# Altium schematic symbol library Diode.SchLib: 578 symbols (part 1 of 4)
Pins are listed as number, name and electrical type; pins without a type are passive.

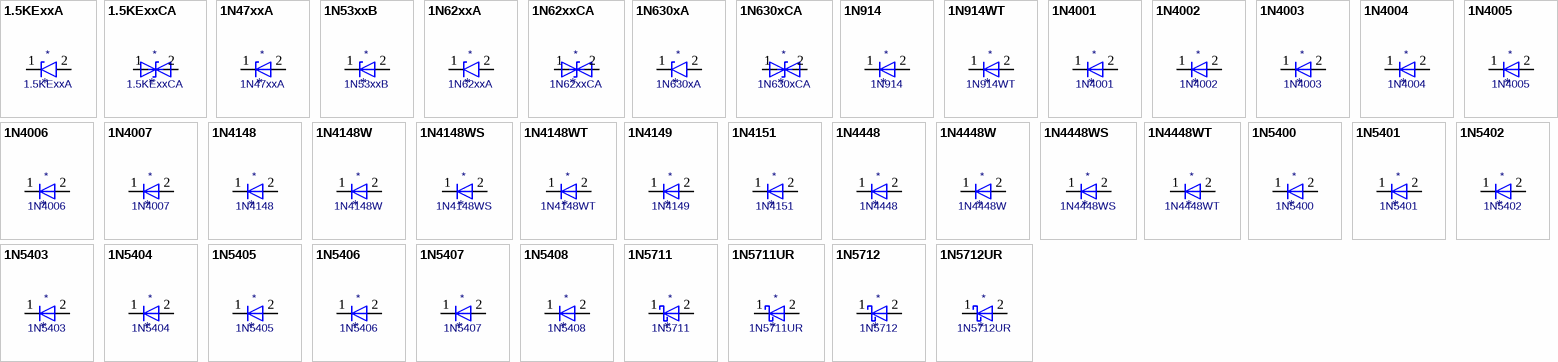
[diagram p0: symbols 1.5KExxA to 1N5712UR]

## 1.5KExxA
designator *  value 1.5KExxA
ki_keywords: diode TVS voltage suppressor; ki_description: 1500W unidirectional TRANSZORB® Transient Voltage Suppressor, DO-201AE; ki_fp_filters: D?DO?201AE*; Footprint: Diode_THT:D_DO-201AE_P15.24mm_Horizontal; Supplier: https://www.vishay.com/docs/88301/15ke.pdf
footprint D_DO-201AE_P15.24mm_Horizontal
pins: 1 A1, 2 A2

## 1.5KExxCA
designator *  value 1.5KExxCA
ki_keywords: diode TVS voltage suppressor; ki_description: 1500W bidirectional TRANSZORB® Transient Voltage Suppressor, DO-201AE; ki_fp_filters: D?DO?201AE*; Footprint: Diode_THT:D_DO-201AE_P15.24mm_Horizontal; Supplier: https://www.vishay.com/docs/88301/15ke.pdf
footprint D_DO-201AE_P15.24mm_Horizontal
pins: 1 A1, 2 A2

## 1N47xxA
designator *  value 1N47xxA
ki_keywords: zener diode; ki_description: 1300mW Silicon planar power Zener diodes, DO-41; ki_fp_filters: D*DO?41*; Footprint: Diode_THT:D_DO-41_SOD81_P10.16mm_Horizontal; Supplier: https://www.vishay.com/docs/85816/1n4728a.pdf
footprint D_DO-41_SOD81_P10.16mm_Horizontal
pins: 1 K, 2 A

## 1N53xxB
designator *  value 1N53xxB
ki_keywords: zener diode; ki_description: 5000mW Zener Diode, DO-201; ki_fp_filters: D*DO?201*; Footprint: Diode_THT:D_DO-201_P15.24mm_Horizontal; Supplier: https://diotec.com/tl_files/diotec/files/pdf/datasheets/1n5345b.pdf
footprint D_DO-201_P15.24mm_Horizontal
pins: 1 K, 2 A

## 1N62xxA
designator *  value 1N62xxA
ki_keywords: diode TVS voltage suppressor; ki_description: 1500W unidirectional TRANSZORB® Transient Voltage Suppressor, DO-201AE; ki_fp_filters: D?DO?201AE*; Footprint: Diode_THT:D_DO-201AE_P15.24mm_Horizontal; Supplier: https://www.vishay.com/docs/88301/15ke.pdf
footprint D_DO-201AE_P15.24mm_Horizontal
pins: 1 A1, 2 A2

## 1N62xxCA
designator *  value 1N62xxCA
ki_keywords: diode TVS voltage suppressor; ki_description: 1500W bidirectional TRANSZORB® Transient Voltage Suppressor, DO-201AE; ki_fp_filters: D?DO?201AE*; Footprint: Diode_THT:D_DO-201AE_P15.24mm_Horizontal; Supplier: https://www.vishay.com/docs/88301/15ke.pdf
footprint D_DO-201AE_P15.24mm_Horizontal
pins: 1 A1, 2 A2

## 1N630xA
designator *  value 1N630xA
ki_keywords: diode TVS voltage suppressor; ki_description: 1500W unidirectional TRANSZORB® Transient Voltage Suppressor, DO-201AE; ki_fp_filters: D?DO?201AE*; Footprint: Diode_THT:D_DO-201AE_P15.24mm_Horizontal; Supplier: https://www.vishay.com/docs/88301/15ke.pdf
footprint D_DO-201AE_P15.24mm_Horizontal
pins: 1 A1, 2 A2

## 1N630xCA
designator *  value 1N630xCA
ki_keywords: diode TVS voltage suppressor; ki_description: 1500W bidirectional TRANSZORB® Transient Voltage Suppressor, DO-201AE; ki_fp_filters: D?DO?201AE*; Footprint: Diode_THT:D_DO-201AE_P15.24mm_Horizontal; Supplier: https://www.vishay.com/docs/88301/15ke.pdf
footprint D_DO-201AE_P15.24mm_Horizontal
pins: 1 A1, 2 A2

## 1N914
designator *  value 1N914
ki_keywords: diode; ki_description: 100V 0.3A Small Signal Fast Switching Diode, DO-35; ki_fp_filters: D*DO?35*; Footprint: Diode_THT:D_DO-35_SOD27_P7.62mm_Horizontal; Supplier: http://www.vishay.com/docs/85622/1n914.pdf
footprint D_DO-35_SOD27_P7.62mm_Horizontal
pins: 1 K, 2 A

## 1N914WT
designator *  value 1N914WT
ki_keywords: diode; ki_description: 75V 0.15A Fast switching Diode, SOD-523; ki_fp_filters: D*SOD?523*; Footprint: Diode_SMD:D_SOD-523; Supplier: http://www.mouser.com/ds/2/149/1N4148WT-461550.pdf
footprint D_SOD-523
pins: 1 K, 2 A

## 1N4001
designator *  value 1N4001
ki_keywords: diode; ki_description: 50V 1A General Purpose Rectifier Diode, DO-41; ki_fp_filters: D*DO?41*; Footprint: Diode_THT:D_DO-41_SOD81_P10.16mm_Horizontal; Supplier: http://www.vishay.com/docs/88503/1n4001.pdf
footprint D_DO-41_SOD81_P10.16mm_Horizontal
pins: 1 K, 2 A

## 1N4002
designator *  value 1N4002
ki_keywords: diode; ki_description: 100V 1A General Purpose Rectifier Diode, DO-41; ki_fp_filters: D*DO?41*; Footprint: Diode_THT:D_DO-41_SOD81_P10.16mm_Horizontal; Supplier: http://www.vishay.com/docs/88503/1n4001.pdf
footprint D_DO-41_SOD81_P10.16mm_Horizontal
pins: 1 K, 2 A

## 1N4003
designator *  value 1N4003
ki_keywords: diode; ki_description: 200V 1A General Purpose Rectifier Diode, DO-41; ki_fp_filters: D*DO?41*; Footprint: Diode_THT:D_DO-41_SOD81_P10.16mm_Horizontal; Supplier: http://www.vishay.com/docs/88503/1n4001.pdf
footprint D_DO-41_SOD81_P10.16mm_Horizontal
pins: 1 K, 2 A

## 1N4004
designator *  value 1N4004
ki_keywords: diode; ki_description: 400V 1A General Purpose Rectifier Diode, DO-41; ki_fp_filters: D*DO?41*; Footprint: Diode_THT:D_DO-41_SOD81_P10.16mm_Horizontal; Supplier: http://www.vishay.com/docs/88503/1n4001.pdf
footprint D_DO-41_SOD81_P10.16mm_Horizontal
pins: 1 K, 2 A

## 1N4005
designator *  value 1N4005
ki_keywords: diode; ki_description: 600V 1A General Purpose Rectifier Diode, DO-41; ki_fp_filters: D*DO?41*; Footprint: Diode_THT:D_DO-41_SOD81_P10.16mm_Horizontal; Supplier: http://www.vishay.com/docs/88503/1n4001.pdf
footprint D_DO-41_SOD81_P10.16mm_Horizontal
pins: 1 K, 2 A

## 1N4006
designator *  value 1N4006
ki_keywords: diode; ki_description: 800V 1A General Purpose Rectifier Diode, DO-41; ki_fp_filters: D*DO?41*; Footprint: Diode_THT:D_DO-41_SOD81_P10.16mm_Horizontal; Supplier: http://www.vishay.com/docs/88503/1n4001.pdf
footprint D_DO-41_SOD81_P10.16mm_Horizontal
pins: 1 K, 2 A

## 1N4007
designator *  value 1N4007
ki_keywords: diode; ki_description: 1000V 1A General Purpose Rectifier Diode, DO-41; ki_fp_filters: D*DO?41*; Footprint: Diode_THT:D_DO-41_SOD81_P10.16mm_Horizontal; Supplier: http://www.vishay.com/docs/88503/1n4001.pdf
footprint D_DO-41_SOD81_P10.16mm_Horizontal
pins: 1 K, 2 A

## 1N4148
designator *  value 1N4148
ki_keywords: diode; ki_description: 100V 0.15A standard switching diode, DO-35; ki_fp_filters: D*DO?35*; Footprint: Diode_THT:D_DO-35_SOD27_P7.62mm_Horizontal; Supplier: https://assets.nexperia.com/documents/data-sheet/1N4148_1N4448.pdf
footprint D_DO-35_SOD27_P7.62mm_Horizontal
pins: 1 K, 2 A

## 1N4148W
designator *  value 1N4148W
ki_keywords: diode; ki_description: 75V 0.15A Fast Switching Diode, SOD-123; ki_fp_filters: D*SOD?123*; Footprint: Diode_SMD:D_SOD-123; Supplier: https://www.vishay.com/docs/85748/1n4148w.pdf
footprint D_SOD-123
pins: 1 K, 2 A

## 1N4148WS
designator *  value 1N4148WS
ki_keywords: diode; ki_description: 75V 0.15A Fast switching Diode, SOD-323; ki_fp_filters: D*SOD?323*; Footprint: Diode_SMD:D_SOD-323; Supplier: https://www.vishay.com/docs/85751/1n4148ws.pdf
footprint D_SOD-323
pins: 1 K, 2 A

## 1N4148WT
designator *  value 1N4148WT
ki_keywords: diode; ki_description: 75V 0.15A Fast switching Diode, SOD-523; ki_fp_filters: D*SOD?523*; Footprint: Diode_SMD:D_SOD-523; Supplier: https://www.diodes.com/assets/Datasheets/ds30396.pdf
footprint D_SOD-523
pins: 1 K, 2 A

## 1N4149
designator *  value 1N4149
ki_keywords: diode; ki_description: 75V Vrm 0.5A Ifsm standard switching diode, DO-35; ki_fp_filters: D*DO?35*; Footprint: Diode_THT:D_DO-35_SOD27_P7.62mm_Horizontal; Supplier: http://www.microsemi.com/document-portal/doc_view/11580-lds-0239
footprint D_DO-35_SOD27_P7.62mm_Horizontal
pins: 1 K, 2 A

## 1N4151
designator *  value 1N4151
ki_keywords: diode; ki_description: 75V 0.5A standard switching diode, DO-35; ki_fp_filters: D*DO?35*; Footprint: Diode_THT:D_DO-35_SOD27_P7.62mm_Horizontal; Supplier: http://www.microsemi.com/document-portal/doc_view/11580-lds-0239
footprint D_DO-35_SOD27_P7.62mm_Horizontal
pins: 1 K, 2 A

## 1N4448
designator *  value 1N4448
ki_keywords: diode; ki_description: 100V 0.15A High-speed standard diode, DO-35; ki_fp_filters: D*DO?35*; Footprint: Diode_THT:D_DO-35_SOD27_P7.62mm_Horizontal; Supplier: https://assets.nexperia.com/documents/data-sheet/1N4148_1N4448.pdf
footprint D_DO-35_SOD27_P7.62mm_Horizontal
pins: 1 K, 2 A

## 1N4448W
designator *  value 1N4448W
ki_keywords: diode; ki_description: 100V 0.15A High-speed standard diode, SOD-123; ki_fp_filters: D*SOD?123*; Footprint: Diode_SMD:D_SOD-123; Supplier: https://www.vishay.com/docs/85722/1n4448w.pdf
footprint D_SOD-123
pins: 1 K, 2 A

## 1N4448WS
designator *  value 1N4448WS
ki_keywords: diode; ki_description: 75V 0.15A Small Signal Fast switching Diode, SOD-323; ki_fp_filters: D*SOD?323*; Footprint: Diode_SMD:D_SOD-323; Supplier: https://www.vishay.com/docs/81387/1n4448ws.pdf
footprint D_SOD-323
pins: 1 K, 2 A

## 1N4448WT
designator *  value 1N4448WT
ki_keywords: diode; ki_description: 75V 0.15A Fast switching Diode, SOD-523; ki_fp_filters: D*SOD?523*; Footprint: Diode_SMD:D_SOD-523; Supplier: http://www.mouser.com/ds/2/149/1N4148WT-461550.pdf
footprint D_SOD-523
pins: 1 K, 2 A

## 1N5400
designator *  value 1N5400
ki_keywords: diode; ki_description: 50V 3A General Purpose Rectifier Diode, DO-201AD; ki_fp_filters: D*DO?201AD*; Footprint: Diode_THT:D_DO-201AD_P15.24mm_Horizontal; Supplier: http://www.vishay.com/docs/88516/1n5400.pdf
footprint D_DO-201AD_P15.24mm_Horizontal
pins: 1 K, 2 A

## 1N5401
designator *  value 1N5401
ki_keywords: diode; ki_description: 100V 3A General Purpose Rectifier Diode, DO-201AD; ki_fp_filters: D*DO?201AD*; Footprint: Diode_THT:D_DO-201AD_P15.24mm_Horizontal; Supplier: http://www.vishay.com/docs/88516/1n5400.pdf
footprint D_DO-201AD_P15.24mm_Horizontal
pins: 1 K, 2 A

## 1N5402
designator *  value 1N5402
ki_keywords: diode; ki_description: 200V 3A General Purpose Rectifier Diode, DO-201AD; ki_fp_filters: D*DO?201AD*; Footprint: Diode_THT:D_DO-201AD_P15.24mm_Horizontal; Supplier: http://www.vishay.com/docs/88516/1n5400.pdf
footprint D_DO-201AD_P15.24mm_Horizontal
pins: 1 K, 2 A

## 1N5403
designator *  value 1N5403
ki_keywords: diode; ki_description: 300V 3A General Purpose Rectifier Diode, DO-201AD; ki_fp_filters: D*DO?201AD*; Footprint: Diode_THT:D_DO-201AD_P15.24mm_Horizontal; Supplier: http://www.vishay.com/docs/88516/1n5400.pdf
footprint D_DO-201AD_P15.24mm_Horizontal
pins: 1 K, 2 A

## 1N5404
designator *  value 1N5404
ki_keywords: diode; ki_description: 400V 3A General Purpose Rectifier Diode, DO-201AD; ki_fp_filters: D*DO?201AD*; Footprint: Diode_THT:D_DO-201AD_P15.24mm_Horizontal; Supplier: http://www.vishay.com/docs/88516/1n5400.pdf
footprint D_DO-201AD_P15.24mm_Horizontal
pins: 1 K, 2 A

## 1N5405
designator *  value 1N5405
ki_keywords: diode; ki_description: 500V 3A General Purpose Rectifier Diode, DO-201AD; ki_fp_filters: D*DO?201AD*; Footprint: Diode_THT:D_DO-201AD_P15.24mm_Horizontal; Supplier: http://www.vishay.com/docs/88516/1n5400.pdf
footprint D_DO-201AD_P15.24mm_Horizontal
pins: 1 K, 2 A

## 1N5406
designator *  value 1N5406
ki_keywords: diode; ki_description: 600V 3A General Purpose Rectifier Diode, DO-201AD; ki_fp_filters: D*DO?201AD*; Footprint: Diode_THT:D_DO-201AD_P15.24mm_Horizontal; Supplier: http://www.vishay.com/docs/88516/1n5400.pdf
footprint D_DO-201AD_P15.24mm_Horizontal
pins: 1 K, 2 A

## 1N5407
designator *  value 1N5407
ki_keywords: diode; ki_description: 800V 3A General Purpose Rectifier Diode, DO-201AD; ki_fp_filters: D*DO?201AD*; Footprint: Diode_THT:D_DO-201AD_P15.24mm_Horizontal; Supplier: http://www.vishay.com/docs/88516/1n5400.pdf
footprint D_DO-201AD_P15.24mm_Horizontal
pins: 1 K, 2 A

## 1N5408
designator *  value 1N5408
ki_keywords: diode; ki_description: 1000V 3A General Purpose Rectifier Diode, DO-201AD; ki_fp_filters: D*DO?201AD*; Footprint: Diode_THT:D_DO-201AD_P15.24mm_Horizontal; Supplier: http://www.vishay.com/docs/88516/1n5400.pdf
footprint D_DO-201AD_P15.24mm_Horizontal
pins: 1 K, 2 A

## 1N5711
designator *  value 1N5711
ki_keywords: diode Schottky; ki_description: 70V 33mA Schottky diode, DO-35; ki_fp_filters: D*DO?35*; Footprint: Diode_THT:D_DO-35_SOD27_P7.62mm_Horizontal; Supplier: https://www.microsemi.com/document-portal/doc_download/8865-lds-0040-datasheet
footprint D_DO-35_SOD27_P7.62mm_Horizontal
pins: 1 K, 2 A

## 1N5711UR
designator *  value 1N5711UR
ki_keywords: diode Schottky; ki_description: 70V 33mA Schottky diode, MELF(DO-213AA); ki_fp_filters: D?MELF*; Footprint: Diode_SMD:D_MELF; Supplier: https://www.microsemi.com/document-portal/doc_download/131890-lds-0040-1-datasheet
footprint D_MELF
pins: 1 K, 2 A

## 1N5712
designator *  value 1N5712
ki_keywords: diode Schottky; ki_description: 20V 75mA Schottky diode, DO-35; ki_fp_filters: D*DO?35*; Footprint: Diode_THT:D_DO-35_SOD27_P7.62mm_Horizontal; Supplier: https://www.microsemi.com/document-portal/doc_download/8865-lds-0040-datasheet
footprint D_DO-35_SOD27_P7.62mm_Horizontal
pins: 1 K, 2 A

## 1N5712UR
designator *  value 1N5712UR
ki_keywords: diode Schottky; ki_description: 20V 75mA Schottky diode, MELF(DO-213AA); ki_fp_filters: D?MELF*; Footprint: Diode_SMD:D_MELF; Supplier: https://www.microsemi.com/document-portal/doc_download/131890-lds-0040-1-datasheet
footprint D_MELF
pins: 1 K, 2 A

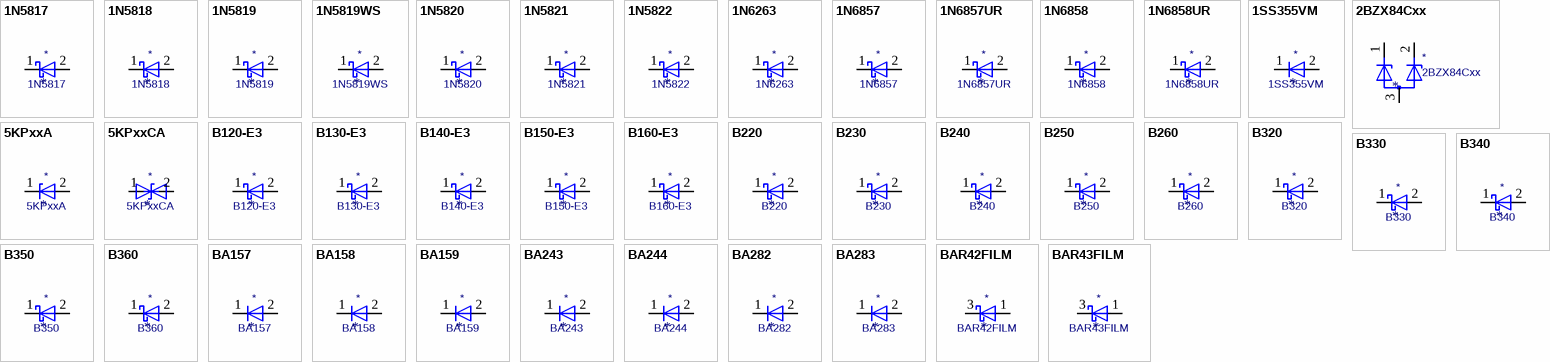
[diagram p1: symbols 1N5817 to BAR43FILM]

## 1N5817
designator *  value 1N5817
ki_keywords: diode Schottky; ki_description: 20V 1A Schottky Barrier Rectifier Diode, DO-41; ki_fp_filters: D*DO?41*; Footprint: Diode_THT:D_DO-41_SOD81_P10.16mm_Horizontal; Supplier: http://www.vishay.com/docs/88525/1n5817.pdf
footprint D_DO-41_SOD81_P10.16mm_Horizontal
pins: 1 K, 2 A

## 1N5818
designator *  value 1N5818
ki_keywords: diode Schottky; ki_description: 30V 1A Schottky Barrier Rectifier Diode, DO-41; ki_fp_filters: D*DO?41*; Footprint: Diode_THT:D_DO-41_SOD81_P10.16mm_Horizontal; Supplier: http://www.vishay.com/docs/88525/1n5817.pdf
footprint D_DO-41_SOD81_P10.16mm_Horizontal
pins: 1 K, 2 A

## 1N5819
designator *  value 1N5819
ki_keywords: diode Schottky; ki_description: 40V 1A Schottky Barrier Rectifier Diode, DO-41; ki_fp_filters: D*DO?41*; Footprint: Diode_THT:D_DO-41_SOD81_P10.16mm_Horizontal; Supplier: http://www.vishay.com/docs/88525/1n5817.pdf
footprint D_DO-41_SOD81_P10.16mm_Horizontal
pins: 1 K, 2 A

## 1N5819WS
designator *  value 1N5819WS
ki_keywords: diode Schottky; ki_description: 40V 600mV@1A 1A SOD-323 Schottky Barrier Diodes, SOD-323; ki_fp_filters: D*SOD?323*; Footprint: Diode_SMD:D_SOD-323; Supplier: https://datasheet.lcsc.com/lcsc/2204281430_Guangdong-Hottech-1N5819WS_C191023.pdf
footprint D_SOD-323
pins: 1 K, 2 A

## 1N5820
designator *  value 1N5820
ki_keywords: diode Schottky; ki_description: 20V 3A Schottky Barrier Rectifier Diode, DO-201AD; ki_fp_filters: D*DO?201AD*; Footprint: Diode_THT:D_DO-201AD_P15.24mm_Horizontal; Supplier: http://www.vishay.com/docs/88526/1n5820.pdf
footprint D_DO-201AD_P15.24mm_Horizontal
pins: 1 K, 2 A

## 1N5821
designator *  value 1N5821
ki_keywords: diode Schottky; ki_description: 30V 3A Schottky Barrier Rectifier Diode, DO-201AD; ki_fp_filters: D*DO?201AD*; Footprint: Diode_THT:D_DO-201AD_P15.24mm_Horizontal; Supplier: http://www.vishay.com/docs/88526/1n5820.pdf
footprint D_DO-201AD_P15.24mm_Horizontal
pins: 1 K, 2 A

## 1N5822
designator *  value 1N5822
ki_keywords: diode Schottky; ki_description: 40V 3A Schottky Barrier Rectifier Diode, DO-201AD; ki_fp_filters: D*DO?201AD*; Footprint: Diode_THT:D_DO-201AD_P15.24mm_Horizontal; Supplier: http://www.vishay.com/docs/88526/1n5820.pdf
footprint D_DO-201AD_P15.24mm_Horizontal
pins: 1 K, 2 A

## 1N6263
designator *  value 1N6263
ki_keywords: diode Schottky; ki_description: 60V 15mA Schottky diode, DO-35; ki_fp_filters: D*DO?35*; Footprint: Diode_THT:D_DO-35_SOD27_P7.62mm_Horizontal; Supplier: www.st.com/resource/en/datasheet/1n6263.pdf
footprint D_DO-35_SOD27_P7.62mm_Horizontal
pins: 1 K, 2 A

## 1N6857
designator *  value 1N6857
ki_keywords: diode Schottky; ki_description: 20V 150mA Schottky diode, DO-35; ki_fp_filters: D*DO?35*; Footprint: Diode_THT:D_DO-35_SOD27_P7.62mm_Horizontal; Supplier: https://www.microsemi.com/document-portal/doc_download/8865-lds-0040-datasheet
footprint D_DO-35_SOD27_P7.62mm_Horizontal
pins: 1 K, 2 A

## 1N6857UR
designator *  value 1N6857UR
ki_keywords: diode Schottky; ki_description: 20V 150mA Schottky diode, MELF(DO-213AA); ki_fp_filters: D?MELF*; Footprint: Diode_SMD:D_MELF; Supplier: https://www.microsemi.com/document-portal/doc_download/131890-lds-0040-1-datasheet
footprint D_MELF
pins: 1 K, 2 A

## 1N6858
designator *  value 1N6858
ki_keywords: diode Schottky; ki_description: 70V 75mA Schottky diode, DO-35; ki_fp_filters: D*DO?35*; Footprint: Diode_THT:D_DO-35_SOD27_P7.62mm_Horizontal; Supplier: https://www.microsemi.com/document-portal/doc_download/8865-lds-0040-datasheet
footprint D_DO-35_SOD27_P7.62mm_Horizontal
pins: 1 K, 2 A

## 1N6858UR
designator *  value 1N6858UR
ki_keywords: diode Schottky; ki_description: 70V 75mA Schottky diode, MELF(DO-213AA); ki_fp_filters: D?MELF*; Footprint: Diode_SMD:D_MELF; Supplier: https://www.microsemi.com/document-portal/doc_download/131890-lds-0040-1-datasheet
footprint D_MELF
pins: 1 K, 2 A

## 1SS355VM
designator *  value 1SS355VM
ki_keywords: diode; ki_description: 90V 0.1A high speed switching Diode, SOD-323F; ki_fp_filters: D*SOD?323F*; Footprint: Diode_SMD:D_SOD-323F; Supplier: https://fscdn.rohm.com/en/products/databook/datasheet/discrete/diode/switching/1ss355vmte-17-e.pdf
footprint D_SOD-323F
pins: 1 K, 2 A

## 2BZX84Cxx
designator *  value 2BZX84Cxx
ki_keywords: zener diode; ki_description: 300mW Double Zener Diode, SOT-23; ki_fp_filters: SOT?23*; Footprint: Package_TO_SOT_SMD:SOT-23; Supplier: https://diotec.com/tl_files/diotec/files/pdf/datasheets/bzx84c2v4.pdf
footprint SOT-23
pins: 1 K, 2 K, 3 A

## 5KPxxA
designator *  value 5KPxxA
ki_keywords: diode TVS voltage suppressor; ki_description: 5000W unidirectional Transient Voltage Suppressor, P-600; ki_fp_filters: D?P600*; Footprint: Diode_THT:D_P600_R-6_P20.00mm_Horizontal; Supplier: https://diotec.com/tl_files/diotec/files/pdf/datasheets/5kp65.pdf
footprint D_P600_R-6_P20.00mm_Horizontal
pins: 1 A1, 2 A2

## 5KPxxCA
designator *  value 5KPxxCA
ki_keywords: diode TVS voltage suppressor; ki_description: 5000W bidirectional Transient Voltage Suppressor, P-600; ki_fp_filters: D?P600*; Footprint: Diode_THT:D_P600_R-6_P20.00mm_Horizontal; Supplier: https://diotec.com/tl_files/diotec/files/pdf/datasheets/5kp65.pdf
footprint D_P600_R-6_P20.00mm_Horizontal
pins: 1 A1, 2 A2

## B120-E3
designator *  value B120-E3
ki_keywords: diode Schottky; ki_description: 20V 1A Schottky Barrier Rectifier Diode, SMA(DO-214AC); ki_fp_filters: D*SMA*; Footprint: Diode_SMD:D_SMA; Supplier: http://www.vishay.com/docs/88946/b120.pdf
footprint D_SMA
pins: 1 K, 2 A

## B130-E3
designator *  value B130-E3
ki_keywords: diode Schottky; ki_description: 30V 1A Schottky Barrier Rectifier Diode, SMA(DO-214AC); ki_fp_filters: D*SMA*; Footprint: Diode_SMD:D_SMA; Supplier: http://www.vishay.com/docs/88946/b120.pdf
footprint D_SMA
pins: 1 K, 2 A

## B140-E3
designator *  value B140-E3
ki_keywords: diode Schottky; ki_description: 40V 1A Schottky Barrier Rectifier Diode, SMA(DO-214AC); ki_fp_filters: D*SMA*; Footprint: Diode_SMD:D_SMA; Supplier: http://www.vishay.com/docs/88946/b120.pdf
footprint D_SMA
pins: 1 K, 2 A

## B150-E3
designator *  value B150-E3
ki_keywords: diode Schottky; ki_description: 50V 1A Schottky Barrier Rectifier Diode, SMA(DO-214AC); ki_fp_filters: D*SMA*; Footprint: Diode_SMD:D_SMA; Supplier: http://www.vishay.com/docs/88946/b120.pdf
footprint D_SMA
pins: 1 K, 2 A

## B160-E3
designator *  value B160-E3
ki_keywords: diode Schottky; ki_description: 60V 1A Schottky Barrier Rectifier Diode, SMA(DO-214AC); ki_fp_filters: D*SMA*; Footprint: Diode_SMD:D_SMA; Supplier: http://www.vishay.com/docs/88946/b120.pdf
footprint D_SMA
pins: 1 K, 2 A

## B220
designator *  value B220
ki_keywords: diode Schottky; ki_description: 20V 2A Schottky Barrier Rectifier Diode, SMB; ki_fp_filters: D*SMB*; Footprint: Diode_SMD:D_SMB; Supplier: http://www.jameco.com/Jameco/Products/ProdDS/1538777.pdf
footprint D_SMB
pins: 1 K, 2 A

## B230
designator *  value B230
ki_keywords: diode Schottky; ki_description: 30V 2A Schottky Barrier Rectifier Diode, SMB; ki_fp_filters: D*SMB*; Footprint: Diode_SMD:D_SMB; Supplier: http://www.jameco.com/Jameco/Products/ProdDS/1538777.pdf
footprint D_SMB
pins: 1 K, 2 A

## B240
designator *  value B240
ki_keywords: diode Schottky; ki_description: 40V 2A Schottky Barrier Rectifier Diode, SMB; ki_fp_filters: D*SMB*; Footprint: Diode_SMD:D_SMB; Supplier: http://www.jameco.com/Jameco/Products/ProdDS/1538777.pdf
footprint D_SMB
pins: 1 K, 2 A

## B250
designator *  value B250
ki_keywords: diode Schottky; ki_description: 50V 2A Schottky Barrier Rectifier Diode, SMB; ki_fp_filters: D*SMB*; Footprint: Diode_SMD:D_SMB; Supplier: http://www.jameco.com/Jameco/Products/ProdDS/1538777.pdf
footprint D_SMB
pins: 1 K, 2 A

## B260
designator *  value B260
ki_keywords: diode Schottky; ki_description: 60V 2A Schottky Barrier Rectifier Diode, SMB; ki_fp_filters: D*SMB*; Footprint: Diode_SMD:D_SMB; Supplier: http://www.jameco.com/Jameco/Products/ProdDS/1538777.pdf
footprint D_SMB
pins: 1 K, 2 A

## B320
designator *  value B320
ki_keywords: diode Schottky; ki_description: 20V 3A Schottky Barrier Rectifier Diode, SMC; ki_fp_filters: D*SMC*; Footprint: Diode_SMD:D_SMC; Supplier: http://www.jameco.com/Jameco/Products/ProdDS/1538777.pdf
footprint D_SMC
pins: 1 K, 2 A

## B330
designator *  value B330
ki_keywords: diode Schottky; ki_description: 30V 3A Schottky Barrier Rectifier Diode, SMC; ki_fp_filters: D*SMC*; Footprint: Diode_SMD:D_SMC; Supplier: http://www.jameco.com/Jameco/Products/ProdDS/1538777.pdf
footprint D_SMC
pins: 1 K, 2 A

## B340
designator *  value B340
ki_keywords: diode Schottky; ki_description: 40V 3A Schottky Barrier Rectifier Diode, SMC; ki_fp_filters: D*SMC*; Footprint: Diode_SMD:D_SMC; Supplier: http://www.jameco.com/Jameco/Products/ProdDS/1538777.pdf
footprint D_SMC
pins: 1 K, 2 A

## B350
designator *  value B350
ki_keywords: diode Schottky; ki_description: 50V 3A Schottky Barrier Rectifier Diode, SMC; ki_fp_filters: D*SMC*; Footprint: Diode_SMD:D_SMC; Supplier: http://www.jameco.com/Jameco/Products/ProdDS/1538777.pdf
footprint D_SMC
pins: 1 K, 2 A

## B360
designator *  value B360
ki_keywords: diode Schottky; ki_description: 60V 3A Schottky Barrier Rectifier Diode, SMC; ki_fp_filters: D*SMC*; Footprint: Diode_SMD:D_SMC; Supplier: http://www.jameco.com/Jameco/Products/ProdDS/1538777.pdf
footprint D_SMC
pins: 1 K, 2 A

## BA157
designator *  value BA157
ki_keywords: diode; ki_description: 400V 1A Fast recovery Rectifier Diode, DO-41; ki_fp_filters: D*DO?41*; Footprint: Diode_THT:D_DO-41_SOD81_P10.16mm_Horizontal; Supplier: https://www.vishay.com/docs/88536/ba157.pdf
footprint D_DO-41_SOD81_P10.16mm_Horizontal
pins: 1 K, 2 A

## BA158
designator *  value BA158
ki_keywords: diode; ki_description: 600V 1A Fast recovery Rectifier Diode, DO-41; ki_fp_filters: D*DO?41*; Footprint: Diode_THT:D_DO-41_SOD81_P10.16mm_Horizontal; Supplier: https://www.vishay.com/docs/88536/ba157.pdf
footprint D_DO-41_SOD81_P10.16mm_Horizontal
pins: 1 K, 2 A

## BA159
designator *  value BA159
ki_keywords: diode; ki_description: 1000V 1A Fast recovery Rectifier Diode, DO-41; ki_fp_filters: D*DO?41*; Footprint: Diode_THT:D_DO-41_SOD81_P10.16mm_Horizontal; Supplier: https://www.vishay.com/docs/88536/ba157.pdf
footprint D_DO-41_SOD81_P10.16mm_Horizontal
pins: 1 K, 2 A

## BA243
designator *  value BA243
ki_keywords: diode; ki_description: 20V 0.1A silicon planar diode for VHF tuner band selection, DO-35; ki_fp_filters: D*DO?35*; Footprint: Diode_THT:D_DO-35_SOD27_P7.62mm_Horizontal; Supplier: http://cdn-reichelt.de/documents/datenblatt/A400/BA243_TFK.pdf
footprint D_DO-35_SOD27_P7.62mm_Horizontal
pins: 1 K, 2 A

## BA244
designator *  value BA244
ki_keywords: diode; ki_description: 20V 0.1A silicon planar diode for VHF tuner band selection, DO-35; ki_fp_filters: D*DO?35*; Footprint: Diode_THT:D_DO-35_SOD27_P7.62mm_Horizontal; Supplier: http://cdn-reichelt.de/documents/datenblatt/A400/BA243_TFK.pdf
footprint D_DO-35_SOD27_P7.62mm_Horizontal
pins: 1 K, 2 A

## BA282
designator *  value BA282
ki_keywords: diode; ki_description: 35V 0.1A Band Switching Diode, DO-35; ki_fp_filters: D*DO?35*; Footprint: Diode_THT:D_DO-35_SOD27_P7.62mm_Horizontal; Supplier: http://docs-europe.electrocomponents.com/webdocs/1304/0900766b813040d6.pdf
footprint D_DO-35_SOD27_P7.62mm_Horizontal
pins: 1 K, 2 A

## BA283
designator *  value BA283
ki_keywords: diode; ki_description: 35V 0.1A Band Switching Diode, DO-35; ki_fp_filters: D*DO?35*; Footprint: Diode_THT:D_DO-35_SOD27_P7.62mm_Horizontal; Supplier: http://docs-europe.electrocomponents.com/webdocs/1304/0900766b813040d6.pdf
footprint D_DO-35_SOD27_P7.62mm_Horizontal
pins: 1 K, 2 A

## BAR42FILM
designator *  value BAR42FILM
ki_keywords: diode Schottky; ki_description: 30V 0.1A Small signal Schottky diode, SOT-23; ki_fp_filters: SOT?23*; Footprint: Package_TO_SOT_SMD:SOT-23; Supplier: www.st.com/resource/en/datasheet/bar42.pdf
footprint SOT-23
pins: 1 A, 2 NC (in) hidden, 3 K

## BAR43FILM
designator *  value BAR43FILM
ki_keywords: diode Schottky; ki_description: 30V 0.1A Small signal Schottky diode, SOT-23; ki_fp_filters: SOT?23*; Footprint: Package_TO_SOT_SMD:SOT-23; Supplier: www.st.com/resource/en/datasheet/bar43.pdf
footprint SOT-23
pins: 1 A, 2 NC (in) hidden, 3 K

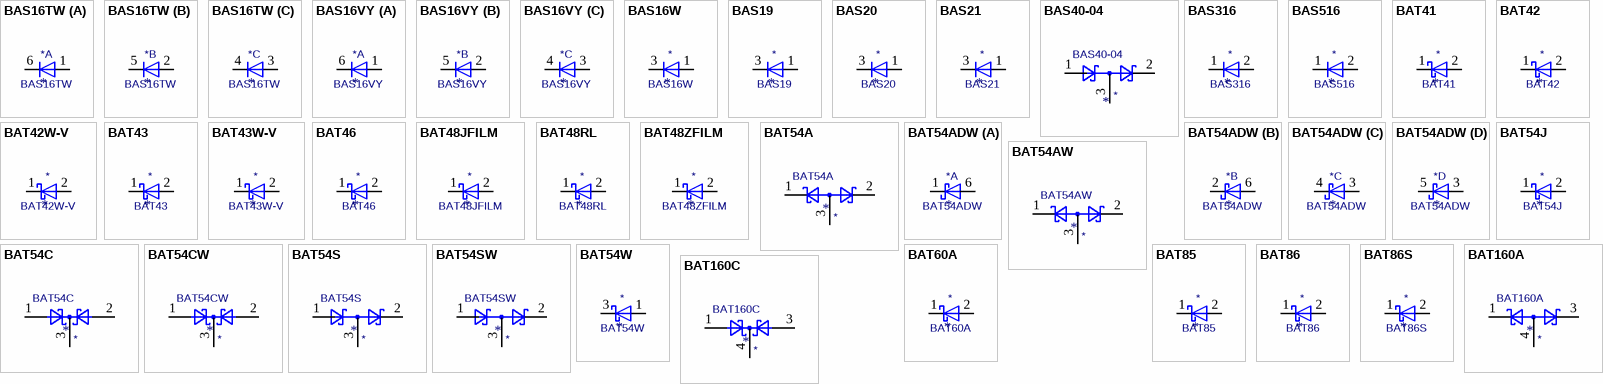
[diagram p2: symbols BAS16TW to BAT160C]

## BAS16TW
designator *  value BAS16TW
ki_keywords: diode; ki_description: Fast switching diode array 3 independent; ki_fp_filters: *SOT?363*; Footprint: Package_TO_SOT_SMD:SOT-363_SC-70-6; Supplier: http://www.diodes.com/datasheets/ds30154.pdf
footprint SOT-363_SC-70-6
part A pins: 1 A, 6 K
part B pins: 2 A, 5 K
part C pins: 3 A, 4 K

## BAS16VY
designator *  value BAS16VY
ki_keywords: diode; ki_description: Fast switching diode array 3 independent; ki_fp_filters: *SOT?363*; Footprint: Package_TO_SOT_SMD:SOT-363_SC-70-6; Supplier: https://assets.nexperia.com/documents/data-sheet/BAS16_SER.pdf
footprint SOT-363_SC-70-6
part A pins: 1 A, 6 K
part B pins: 2 A, 5 K
part C pins: 3 A, 4 K

## BAS16W
designator *  value BAS16W
ki_keywords: diode; ki_description: 100V, 0.175A, High-speed Switching Diode, SOT-323; ki_fp_filters: SOT?323*; Footprint: Package_TO_SOT_SMD:SOT-323_SC-70; Supplier: https://assets.nexperia.com/documents/data-sheet/BAS16_SER.pdf
footprint SOT-323_SC-70
pins: 1 A, 2 NC (in) hidden, 3 K

## BAS19
designator *  value BAS19
ki_keywords: diode; ki_description: 120V, 0.4A, High-speed Switching Diode, SOT-23; ki_fp_filters: SOT?23*; Footprint: Package_TO_SOT_SMD:SOT-23; Supplier: https://www.diodes.com/assets/Datasheets/Ds12004.pdf
footprint SOT-23
pins: 1 A, 2 NC (in) hidden, 3 K

## BAS20
designator *  value BAS20
ki_keywords: diode; ki_description: 200V, 0.4A, High-speed Switching Diode, SOT-23; ki_fp_filters: SOT?23*; Footprint: Package_TO_SOT_SMD:SOT-23; Supplier: https://www.diodes.com/assets/Datasheets/Ds12004.pdf
footprint SOT-23
pins: 1 A, 2 NC (in) hidden, 3 K

## BAS21
designator *  value BAS21
ki_keywords: diode; ki_description: 250V, 0.4A, High-speed Switching Diode, SOT-23; ki_fp_filters: SOT?23*; Footprint: Package_TO_SOT_SMD:SOT-23; Supplier: https://www.diodes.com/assets/Datasheets/Ds12004.pdf
footprint SOT-23
pins: 1 A, 2 NC (in) hidden, 3 K

## BAS40-04
designator *  value BAS40-04
ki_keywords: Schottky, Diode; ki_description: 40V 0.2A Dual Small Signal Schottky Diodes; ki_fp_filters: SOT?23*; Footprint: Package_TO_SOT_SMD:SOT-23; Supplier: http://www.vishay.com/docs/85701/bas40v.pdf
footprint SOT-23
pins: 1, 2, 3

## BAS316
designator *  value BAS316
ki_keywords: diode; ki_description: 100V, 0.25A, High-speed Switching Diode, SOD-323; ki_fp_filters: D*SOD?323*; Footprint: Diode_SMD:D_SOD-323; Supplier: https://assets.nexperia.com/documents/data-sheet/BAS16_SER.pdf
footprint D_SOD-323
pins: 1 K, 2 A

## BAS516
designator *  value BAS516
ki_keywords: diode; ki_description: 100V, 0.25A, High-speed Switching Diode, SOD-523; ki_fp_filters: D*SOD?523*; Footprint: Diode_SMD:D_SOD-523; Supplier: https://assets.nexperia.com/documents/data-sheet/BAS16_SER.pdf
footprint D_SOD-523
pins: 1 K, 2 A

## BAT41
designator *  value BAT41
ki_keywords: diode Schottky; ki_description: 100V 0.1A Small Signal Schottky Diode, DO-35; ki_fp_filters: D*DO?35*; Footprint: Diode_THT:D_DO-35_SOD27_P7.62mm_Horizontal; Supplier: http://www.vishay.com/docs/85659/bat41.pdf
footprint D_DO-35_SOD27_P7.62mm_Horizontal
pins: 1 K, 2 A

## BAT42
designator *  value BAT42
ki_keywords: diode Schottky; ki_description: 30V 0.2A Small Signal Schottky Diode, DO-35; ki_fp_filters: D*DO?35*; Footprint: Diode_THT:D_DO-35_SOD27_P7.62mm_Horizontal; Supplier: http://www.vishay.com/docs/85660/bat42.pdf
footprint D_DO-35_SOD27_P7.62mm_Horizontal
pins: 1 K, 2 A

## BAT42W-V
designator *  value BAT42W-V
ki_keywords: diode Schottky; ki_description: 30V 0.2A Small Signal Schottky diode, SOD-123; ki_fp_filters: D*SOD?123*; Footprint: Diode_SMD:D_SOD-123; Supplier: http://www.vishay.com/docs/85660/bat42.pdf
footprint D_SOD-123
pins: 1 K, 2 A

## BAT43
designator *  value BAT43
ki_keywords: diode Schottky; ki_description: 30V 0.2A Small Signal Schottky Diode, DO-35; ki_fp_filters: D*DO?35*; Footprint: Diode_THT:D_DO-35_SOD27_P7.62mm_Horizontal; Supplier: http://www.vishay.com/docs/85660/bat42.pdf
footprint D_DO-35_SOD27_P7.62mm_Horizontal
pins: 1 K, 2 A

## BAT43W-V
designator *  value BAT43W-V
ki_keywords: diode Schottky; ki_description: 30V 0.2A Small Signal Schottky diode, SOD-123; ki_fp_filters: D*SOD?123*; Footprint: Diode_SMD:D_SOD-123; Supplier: http://www.vishay.com/docs/85660/bat42.pdf
footprint D_SOD-123
pins: 1 K, 2 A

## BAT46
designator *  value BAT46
ki_keywords: diode Schottky; ki_description: 100V 0.15A Small Signal Schottky Diode, DO-35; ki_fp_filters: D*DO?35*; Footprint: Diode_THT:D_DO-35_SOD27_P7.62mm_Horizontal; Supplier: http://www.vishay.com/docs/85662/bat46.pdf
footprint D_DO-35_SOD27_P7.62mm_Horizontal
pins: 1 K, 2 A

## BAT48JFILM
designator *  value BAT48JFILM
ki_keywords: diode Schottky; ki_description: 40V 0.35A Small Signal Schottky Diode, SOD-323; ki_fp_filters: D*SOD?323*; Footprint: Diode_SMD:D_SOD-323; Supplier: www.st.com/resource/en/datasheet/bat48.pdf
footprint D_SOD-323
pins: 1 K, 2 A

## BAT48RL
designator *  value BAT48RL
ki_keywords: diode Schottky; ki_description: 40V 0.35A Small Signal Schottky Diode, DO-35; ki_fp_filters: D*DO?35*; Footprint: Diode_THT:D_DO-35_SOD27_P7.62mm_Horizontal; Supplier: www.st.com/resource/en/datasheet/bat48.pdf
footprint D_DO-35_SOD27_P7.62mm_Horizontal
pins: 1 K, 2 A

## BAT48ZFILM
designator *  value BAT48ZFILM
ki_keywords: diode Schottky; ki_description: 40V 0.35A Small Signal Schottky Diode, SOD-123; ki_fp_filters: D*SOD?123*; Footprint: Diode_SMD:D_SOD-123; Supplier: www.st.com/resource/en/datasheet/bat48.pdf
footprint D_SOD-123
pins: 1 K, 2 A

## BAT54A
designator *  value BAT54A
ki_keywords: schottky diode; ki_description: schottky barrier diode; ki_fp_filters: SOT?23*; Footprint: Package_TO_SOT_SMD:SOT-23; Supplier: http://www.diodes.com/_files/datasheets/ds11005.pdf
footprint SOT-23
pins: 1, 2, 3

## BAT54ADW
designator *  value BAT54ADW
ki_keywords: diode; ki_description: Schottky diode array 2 pair Com A; ki_fp_filters: SOT?363*; Footprint: Package_TO_SOT_SMD:SOT-363_SC-70-6; Supplier: http://www.diodes.com/datasheets/ds30152.pdf
footprint SOT-363_SC-70-6
part A pins: 1 K, 6 A
part B pins: 2 K, 6 A
part C pins: 3 A, 4 K
part D pins: 3 A, 5 K

## BAT54AW
designator *  value BAT54AW
ki_keywords: dual schottky diode; ki_description: Dual schottky barrier diode, common anode, SOT-323; ki_fp_filters: SOT?323*; Footprint: Package_TO_SOT_SMD:SOT-323_SC-70; Supplier: https://assets.nexperia.com/documents/data-sheet/BAT54W_SER.pdf
footprint SOT-323_SC-70
pins: 1, 2, 3

## BAT54C
designator *  value BAT54C
ki_keywords: schottky diode common cathode; ki_description: dual schottky barrier diode, common cathode; ki_fp_filters: SOT?23*; Footprint: Package_TO_SOT_SMD:SOT-23; Supplier: http://www.diodes.com/_files/datasheets/ds11005.pdf
footprint SOT-23
pins: 1, 2, 3

## BAT54CW
designator *  value BAT54CW
ki_keywords: dual schottky diode; ki_description: Dual schottky barrier diode, common cathode, SOT-323; ki_fp_filters: SOT?323*; Footprint: Package_TO_SOT_SMD:SOT-323_SC-70; Supplier: https://assets.nexperia.com/documents/data-sheet/BAT54W_SER.pdf
footprint SOT-323_SC-70
pins: 1, 2, 3

## BAT54J
designator *  value BAT54J
ki_keywords: diode Schottky; ki_description: 30V 200mA Schottky diode, SOD-323F; ki_fp_filters: D*SOD?323F*; Footprint: Diode_SMD:D_SOD-323F; Supplier: https://assets.nexperia.com/documents/data-sheet/BAT54J.pdf
footprint D_SOD-323F
pins: 1 K, 2 A

## BAT54S
designator *  value BAT54S
ki_keywords: schottky diode; ki_description: schottky barrier diode; ki_fp_filters: SOT?23*; Footprint: Package_TO_SOT_SMD:SOT-23; Supplier: https://www.diodes.com/assets/Datasheets/ds11005.pdf
footprint SOT-23
pins: 1, 2, 3

## BAT54SW
designator *  value BAT54SW
ki_keywords: dual schottky diode; ki_description: Dual schottky barrier diode, in series, SOT-323; ki_fp_filters: SOT?323*; Footprint: Package_TO_SOT_SMD:SOT-323_SC-70; Supplier: https://assets.nexperia.com/documents/data-sheet/BAT54W_SER.pdf
footprint SOT-323_SC-70
pins: 1, 2, 3

## BAT54W
designator *  value BAT54W
ki_keywords: schottky diode; ki_description: Schottky barrier diode, SOT-323; ki_fp_filters: SOT?323*; Footprint: Package_TO_SOT_SMD:SOT-323_SC-70; Supplier: https://assets.nexperia.com/documents/data-sheet/BAT54W_SER.pdf
footprint SOT-323_SC-70
pins: 1 A, 2 NC (in) hidden, 3 K

## BAT60A
designator *  value BAT60A
ki_keywords: diode Schottky; ki_description: 10V 3A High Current Recitifier Schottky Diode, SOD-323; ki_fp_filters: D*SOD?323*; Footprint: Diode_SMD:D_SOD-323; Supplier: https://www.infineon.com/dgdl/Infineon-BAT60ASERIES-DS-v01_01-en.pdf?fileId=db3a304313d846880113def70c9304a9
footprint D_SOD-323
pins: 1 K, 2 A

## BAT85
designator *  value BAT85
ki_keywords: diode Schottky; ki_description: 30V 0.2A Schottky barrier single diode, DO-35; ki_fp_filters: D*DO?35*; Footprint: Diode_THT:D_DO-35_SOD27_P7.62mm_Horizontal; Supplier: https://assets.nexperia.com/documents/data-sheet/BAT85.pdf
footprint D_DO-35_SOD27_P7.62mm_Horizontal
pins: 1 K, 2 A

## BAT86
designator *  value BAT86
ki_keywords: diode Schottky; ki_description: 50V 0.2A Small Signal Schottky Diode, DO-35; ki_fp_filters: D*DO?35*; Footprint: Diode_THT:D_DO-35_SOD27_P7.62mm_Horizontal; Supplier: https://assets.nexperia.com/documents/data-sheet/BAT86.pdf
footprint D_DO-35_SOD27_P7.62mm_Horizontal
pins: 1 K, 2 A

## BAT86S
designator *  value BAT86S
ki_keywords: diode Schottky; ki_description: 50V 0.2A Small Signal Schottky Diode, DO-35; ki_fp_filters: D*DO?35*; Footprint: Diode_THT:D_DO-35_SOD27_P7.62mm_Horizontal; Supplier: http://www.vishay.com/docs/85514/bat86s.pdf
footprint D_DO-35_SOD27_P7.62mm_Horizontal
pins: 1 K, 2 A

## BAT160A
designator *  value BAT160A
ki_keywords: dual schottky diode; ki_description: Dual schottky barrier diode, common anode, SOT-223; ki_fp_filters: SOT?223*; Footprint: Package_TO_SOT_SMD:SOT-223; Supplier: https://assets.nexperia.com/documents/data-sheet/BAT160_SERIES.pdf
footprint SOT-223
pins: 1, 2 NC (in) hidden, 3, 4

## BAT160C
designator *  value BAT160C
ki_keywords: dual schottky diode; ki_description: Dual schottky barrier diode, common cathode, SOT-223; ki_fp_filters: SOT?223*; Footprint: Package_TO_SOT_SMD:SOT-223; Supplier: https://assets.nexperia.com/documents/data-sheet/BAT160_SERIES.pdf
footprint SOT-223
pins: 1, 2 NC (in) hidden, 3, 4

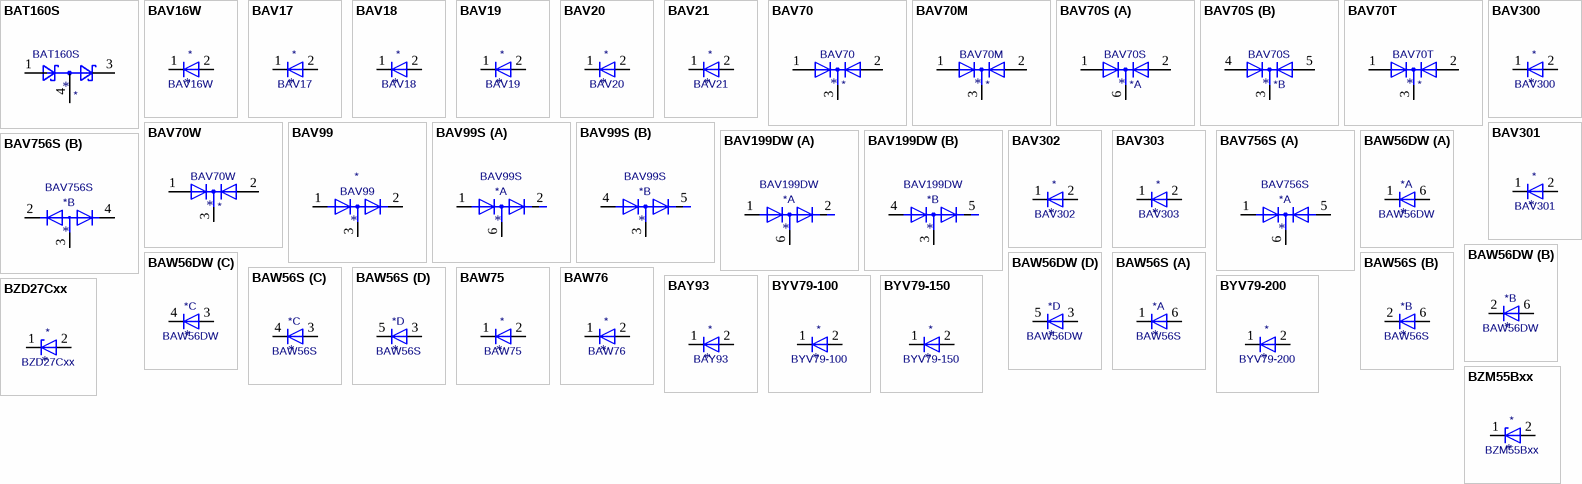
[diagram p3: symbols BAT160S to BZM55Bxx]

## BAT160S
designator *  value BAT160S
ki_keywords: dual schottky diode; ki_description: Dual schottky barrier diode, in series, SOT-223; ki_fp_filters: SOT?223*; Footprint: Package_TO_SOT_SMD:SOT-223; Supplier: https://assets.nexperia.com/documents/data-sheet/BAT160_SERIES.pdf
footprint SOT-223
pins: 1, 2 NC (in) hidden, 3, 4

## BAV16W
designator *  value BAV16W
ki_keywords: diode; ki_description: 75V 0.15A Fast Switching Diode, SOD-123; ki_fp_filters: D*SOD?123*; Footprint: Diode_SMD:D_SOD-123; Supplier: https://www.diodes.com/assets/Datasheets/ds30086.pdf
footprint D_SOD-123
pins: 1 K, 2 A

## BAV17
designator *  value BAV17
ki_keywords: diode; ki_description: 20V 0.25A Small Signal Switching Diode, High Voltage, DO-35; ki_fp_filters: D*DO?35*; Footprint: Diode_THT:D_DO-35_SOD27_P7.62mm_Horizontal; Supplier: http://www.vishay.com/docs/85543/bav17.pdf
footprint D_DO-35_SOD27_P7.62mm_Horizontal
pins: 1 K, 2 A

## BAV18
designator *  value BAV18
ki_keywords: diode; ki_description: 50V 0.25A Small Signal Switching Diode, High Voltage, DO-35; ki_fp_filters: D*DO?35*; Footprint: Diode_THT:D_DO-35_SOD27_P7.62mm_Horizontal; Supplier: http://www.vishay.com/docs/85543/bav17.pdf
footprint D_DO-35_SOD27_P7.62mm_Horizontal
pins: 1 K, 2 A

## BAV19
designator *  value BAV19
ki_keywords: diode; ki_description: 100V 0.25A Small Signal Switching Diode, High Voltage, DO-35; ki_fp_filters: D*DO?35*; Footprint: Diode_THT:D_DO-35_SOD27_P7.62mm_Horizontal; Supplier: http://www.vishay.com/docs/85543/bav17.pdf
footprint D_DO-35_SOD27_P7.62mm_Horizontal
pins: 1 K, 2 A

## BAV20
designator *  value BAV20
ki_keywords: diode; ki_description: 150V 0.25A Small Signal Switching Diode, High Voltage, DO-35; ki_fp_filters: D*DO?35*; Footprint: Diode_THT:D_DO-35_SOD27_P7.62mm_Horizontal; Supplier: http://www.vishay.com/docs/85543/bav17.pdf
footprint D_DO-35_SOD27_P7.62mm_Horizontal
pins: 1 K, 2 A

## BAV21
designator *  value BAV21
ki_keywords: diode; ki_description: 200V 0.25A Small Signal Switching Diode, High Voltage, DO-35; ki_fp_filters: D*DO?35*; Footprint: Diode_THT:D_DO-35_SOD27_P7.62mm_Horizontal; Supplier: http://www.vishay.com/docs/85543/bav17.pdf
footprint D_DO-35_SOD27_P7.62mm_Horizontal
pins: 1 K, 2 A

## BAV70
designator *  value BAV70
ki_keywords: diode; ki_description: Dual 100V 215mA high-speed switching diodes, common cathode, SOT-23; ki_fp_filters: SOT?23*; Footprint: Package_TO_SOT_SMD:SOT-23; Supplier: https://assets.nexperia.com/documents/data-sheet/BAV70_SER.pdf
footprint SOT-23
pins: 1 A, 2 A, 3 K

## BAV70M
designator *  value BAV70M
ki_keywords: diode; ki_description: Dual 100V 150mA high-speed switching diodes, common cathode, SOT-883; ki_fp_filters: SOT?883*; Footprint: Package_TO_SOT_SMD:SOT-883; Supplier: https://assets.nexperia.com/documents/data-sheet/BAV70_SER.pdf
footprint SOT-883
pins: 1 A, 2 A, 3 K

## BAV70S
designator *  value BAV70S
ki_keywords: diode; ki_description: 100V 250mA high-speed switching diodes, dual common cathode, SOT-363; ki_fp_filters: SOT?363*; Footprint: Package_TO_SOT_SMD:SOT-363_SC-70-6; Supplier: https://assets.nexperia.com/documents/data-sheet/BAV70_SER.pdf
footprint SOT-363_SC-70-6
part A pins: 1 A, 2 A, 6 K
part B pins: 3 K, 4 A, 5 A

## BAV70T
designator *  value BAV70T
ki_keywords: diode; ki_description: Dual 100V 150mA high-speed switching diodes, common cathode, SOT-416; ki_fp_filters: SOT?416*; Footprint: Package_TO_SOT_SMD:SOT-416; Supplier: https://assets.nexperia.com/documents/data-sheet/BAV70_SER.pdf
footprint SOT-416
pins: 1 A, 2 A, 3 K

## BAV70W
designator *  value BAV70W
ki_keywords: diode; ki_description: Dual 100V 175mA high-speed switching diodes, common cathode, SOT-323; ki_fp_filters: SOT?323*; Footprint: Package_TO_SOT_SMD:SOT-323_SC-70; Supplier: https://assets.nexperia.com/documents/data-sheet/BAV70_SER.pdf
footprint SOT-323_SC-70
pins: 1 A, 2 A, 3 K

## BAV99
designator *  value BAV99
ki_keywords: diode; ki_description: BAV99 High-speed switching diodes, SOT-23; ki_fp_filters: SOT?23*; Footprint: Package_TO_SOT_SMD:SOT-23; Supplier: https://assets.nexperia.com/documents/data-sheet/BAV99_SER.pdf
footprint SOT-23
pins: 1 K, 2 A, 3 K

## BAV99S
designator *  value BAV99S
ki_keywords: Diode; ki_description: High-speed switching diodes, dual series, SOT-363; ki_fp_filters: SOT?363*; Footprint: Package_TO_SOT_SMD:SOT-363_SC-70-6; Supplier: https://assets.nexperia.com/documents/data-sheet/BAV99_SER.pdf
footprint SOT-363_SC-70-6
part A pins: 1 A1, 2 K2, 6 K3A4
part B pins: 3 K1A2, 4 A3, 5 K4

## BAV199DW
designator *  value BAV199DW
ki_keywords: Quad diode; ki_description: Quad Surface Mount Low Leakage Diode, SOT-363; ki_fp_filters: SOT?363*; Footprint: Package_TO_SOT_SMD:SOT-363_SC-70-6; Supplier: https://www.diodes.com/assets/Datasheets/ds30417.pdf
footprint SOT-363_SC-70-6
part A pins: 1 A1, 2 K2, 6 K3A4
part B pins: 3 K1A2, 4 A3, 5 K4

## BAV300
designator *  value BAV300
ki_keywords: diode; ki_description: 50V 0.25A Switching Diode, High Voltage, MicroMELF; ki_fp_filters: D*MicroMELF*; Footprint: Diode_SMD:D_MicroMELF; Supplier: http://www.vishay.com/docs/85545/bav300.pdf
footprint D_MicroMELF
pins: 1 K, 2 A

## BAV301
designator *  value BAV301
ki_keywords: diode; ki_description: 100V 0.25A Switching Diode, High Voltage, MicroMELF; ki_fp_filters: D*MicroMELF*; Footprint: Diode_SMD:D_MicroMELF; Supplier: http://www.vishay.com/docs/85545/bav300.pdf
footprint D_MicroMELF
pins: 1 K, 2 A

## BAV302
designator *  value BAV302
ki_keywords: diode; ki_description: 150V 0.25A Switching Diode, High Voltage, MicroMELF; ki_fp_filters: D*MicroMELF*; Footprint: Diode_SMD:D_MicroMELF; Supplier: http://www.vishay.com/docs/85545/bav300.pdf
footprint D_MicroMELF
pins: 1 K, 2 A

## BAV303
designator *  value BAV303
ki_keywords: diode; ki_description: 200V 0.25A Switching Diode, High Voltage, MicroMELF; ki_fp_filters: D*MicroMELF*; Footprint: Diode_SMD:D_MicroMELF; Supplier: http://www.vishay.com/docs/85545/bav300.pdf
footprint D_MicroMELF
pins: 1 K, 2 A

## BAV756S
designator *  value BAV756S
ki_keywords: Diode; ki_description: High-speed switching diodes, dual common anode/common cathode, SOT-363; ki_fp_filters: SOT?363*; Footprint: Package_TO_SOT_SMD:SOT-363_SC-70-6; Supplier: https://assets.nexperia.com/documents/data-sheet/BAV756S_BAW56_SER.pdf
footprint SOT-363_SC-70-6
part A pins: 1 A1, 5 A4, 6 CK
part B pins: 2 K2, 3 CA, 4 K3

## BAW56DW
designator *  value BAW56DW
ki_keywords: diode; ki_description: Switching diode array 2 pair Com A; ki_fp_filters: SOT?363*; Footprint: Package_TO_SOT_SMD:SOT-363_SC-70-6; Supplier: http://www.diodes.com/datasheets/ds30146.pdf
footprint SOT-363_SC-70-6
part A pins: 1 K, 6 A
part B pins: 2 K, 6 A
part C pins: 3 A, 4 K
part D pins: 3 A, 5 K

## BAW56S
designator *  value BAW56S
ki_keywords: diode; ki_description: High Speed Switching Diode Array 2 pair Com A; ki_fp_filters: SOT?363*; Footprint: Package_TO_SOT_SMD:SOT-363_SC-70-6; Supplier: https://assets.nexperia.com/documents/data-sheet/BAV756S_BAW56_SER.pdf
footprint SOT-363_SC-70-6
part A pins: 1 K, 6 A
part B pins: 2 K, 6 A
part C pins: 3 A, 4 K
part D pins: 3 A, 5 K

## BAW75
designator *  value BAW75
ki_keywords: diode; ki_description: 25V 0.45A Small Signal Switching Diode, DO-35; ki_fp_filters: D*DO?35*; Footprint: Diode_THT:D_DO-35_SOD27_P7.62mm_Horizontal; Supplier: http://www.vishay.com/docs/85550/baw75.pdf
footprint D_DO-35_SOD27_P7.62mm_Horizontal
pins: 1 K, 2 A

## BAW76
designator *  value BAW76
ki_keywords: diode; ki_description: 50V 0.3A Small Signal Fast Switching Diode, DO-35; ki_fp_filters: D*DO?35*; Footprint: Diode_THT:D_DO-35_SOD27_P7.62mm_Horizontal; Supplier: http://www.vishay.com/docs/85551/baw76.pdf
footprint D_DO-35_SOD27_P7.62mm_Horizontal
pins: 1 K, 2 A

## BAY93
designator *  value BAY93
ki_keywords: diode; ki_description: 20V 0.115A Very Fast Switching Diode, DO-35; ki_fp_filters: D*DO?35*; Footprint: Diode_THT:D_DO-35_SOD27_P7.62mm_Horizontal; Supplier: https://cdn-reichelt.de/documents/datenblatt/A400/BAY93_TFK.pdf
footprint D_DO-35_SOD27_P7.62mm_Horizontal
pins: 1 K, 2 A

## BYV79-100
designator *  value BYV79-100
ki_keywords: diode; ki_description: 100V 14A Ultrafast Rectifier Diode, TO-220; ki_fp_filters: TO?220*; Footprint: Package_TO_SOT_THT:TO-220-2_Vertical; Supplier: http://pdf.datasheetcatalog.com/datasheet/philips/BYV79-100.pdf
footprint TO-220-2_Vertical
pins: 1 K, 2 A

## BYV79-150
designator *  value BYV79-150
ki_keywords: diode; ki_description: 150V 14A Ultrafast Rectifier Diode, TO-220; ki_fp_filters: TO?220*; Footprint: Package_TO_SOT_THT:TO-220-2_Vertical; Supplier: http://pdf.datasheetcatalog.com/datasheet/philips/BYV79-100.pdf
footprint TO-220-2_Vertical
pins: 1 K, 2 A

## BYV79-200
designator *  value BYV79-200
ki_keywords: diode; ki_description: 200V 14A Ultrafast Rectifier Diode, TO-220; ki_fp_filters: TO?220*; Footprint: Package_TO_SOT_THT:TO-220-2_Vertical; Supplier: http://pdf.datasheetcatalog.com/datasheet/philips/BYV79-100.pdf
footprint TO-220-2_Vertical
pins: 1 K, 2 A

## BZD27Cxx
designator *  value BZD27Cxx
ki_keywords: zener diode; ki_description: 800mW Zener Diode, 3.6-200V, SMF; ki_fp_filters: D*SMF*; Footprint: Diode_SMD:D_SMF; Supplier: https://www.vishay.com/docs/85153/bzd27series.pdf
footprint D_SMF
pins: 1 K, 2 A

## BZM55Bxx
designator *  value BZM55Bxx
ki_keywords: zener diode; ki_description: 500mW Zener Diode, 2%, MicroMELF; ki_fp_filters: D*MicroMELF*; Footprint: Diode_SMD:D_MicroMELF; Supplier: http://www.vishay.com/docs/85597/bzm55.pdf
footprint D_MicroMELF
pins: 1 K, 2 A

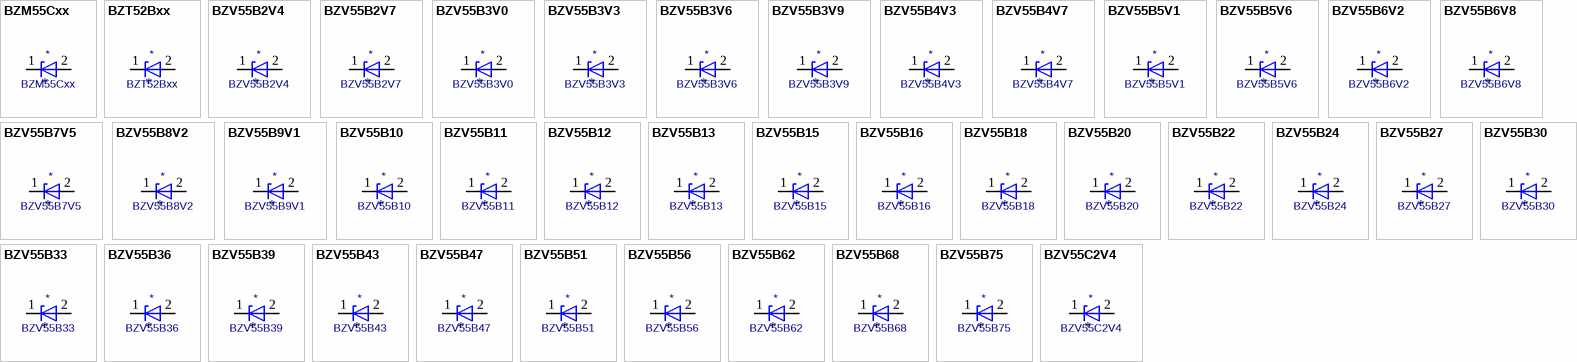
[diagram p4: symbols BZM55Cxx to BZV55C2V4]

## BZM55Cxx
designator *  value BZM55Cxx
ki_keywords: zener diode; ki_description: 500mW Zener Diode, 6%, MicroMELF; ki_fp_filters: D*MicroMELF*; Footprint: Diode_SMD:D_MicroMELF; Supplier: http://www.vishay.com/docs/85597/bzm55.pdf
footprint D_MicroMELF
pins: 1 K, 2 A

## BZT52Bxx
designator *  value BZT52Bxx
ki_keywords: zener diode; ki_description: 500mW Zener Diode, SOD-123F; ki_fp_filters: D?SOD?123F*; Footprint: Diode_SMD:D_SOD-123F; Supplier: https://diotec.com/tl_files/diotec/files/pdf/datasheets/bzt52b2v4.pdf
footprint D_SOD-123F
pins: 1 K, 2 A

## BZV55B2V4
designator *  value BZV55B2V4
ki_keywords: zener diode; ki_description: 2.4V, 500mW, 2%, Zener diode, MiniMELF; ki_fp_filters: D*MiniMELF*; Footprint: Diode_SMD:D_MiniMELF; Supplier: https://assets.nexperia.com/documents/data-sheet/BZV55_SER.pdf
footprint D_MiniMELF
pins: 1 K, 2 A

## BZV55B2V7
designator *  value BZV55B2V7
ki_keywords: zener diode; ki_description: 2.7V, 500mW, 2%, Zener diode, MiniMELF; ki_fp_filters: D*MiniMELF*; Footprint: Diode_SMD:D_MiniMELF; Supplier: https://assets.nexperia.com/documents/data-sheet/BZV55_SER.pdf
footprint D_MiniMELF
pins: 1 K, 2 A

## BZV55B3V0
designator *  value BZV55B3V0
ki_keywords: zener diode; ki_description: 3.0V, 500mW, 2%, Zener diode, MiniMELF; ki_fp_filters: D*MiniMELF*; Footprint: Diode_SMD:D_MiniMELF; Supplier: https://assets.nexperia.com/documents/data-sheet/BZV55_SER.pdf
footprint D_MiniMELF
pins: 1 K, 2 A

## BZV55B3V3
designator *  value BZV55B3V3
ki_keywords: zener diode; ki_description: 3.3V, 500mW, 2%, Zener diode, MiniMELF; ki_fp_filters: D*MiniMELF*; Footprint: Diode_SMD:D_MiniMELF; Supplier: https://assets.nexperia.com/documents/data-sheet/BZV55_SER.pdf
footprint D_MiniMELF
pins: 1 K, 2 A

## BZV55B3V6
designator *  value BZV55B3V6
ki_keywords: zener diode; ki_description: 3.6V, 500mW, 2%, Zener diode, MiniMELF; ki_fp_filters: D*MiniMELF*; Footprint: Diode_SMD:D_MiniMELF; Supplier: https://assets.nexperia.com/documents/data-sheet/BZV55_SER.pdf
footprint D_MiniMELF
pins: 1 K, 2 A

## BZV55B3V9
designator *  value BZV55B3V9
ki_keywords: zener diode; ki_description: 3.9V, 500mW, 2%, Zener diode, MiniMELF; ki_fp_filters: D*MiniMELF*; Footprint: Diode_SMD:D_MiniMELF; Supplier: https://assets.nexperia.com/documents/data-sheet/BZV55_SER.pdf
footprint D_MiniMELF
pins: 1 K, 2 A

## BZV55B4V3
designator *  value BZV55B4V3
ki_keywords: zener diode; ki_description: 4.3V, 500mW, 2%, Zener diode, MiniMELF; ki_fp_filters: D*MiniMELF*; Footprint: Diode_SMD:D_MiniMELF; Supplier: https://assets.nexperia.com/documents/data-sheet/BZV55_SER.pdf
footprint D_MiniMELF
pins: 1 K, 2 A

## BZV55B4V7
designator *  value BZV55B4V7
ki_keywords: zener diode; ki_description: 4.7V, 500mW, 2%, Zener diode, MiniMELF; ki_fp_filters: D*MiniMELF*; Footprint: Diode_SMD:D_MiniMELF; Supplier: https://assets.nexperia.com/documents/data-sheet/BZV55_SER.pdf
footprint D_MiniMELF
pins: 1 K, 2 A

## BZV55B5V1
designator *  value BZV55B5V1
ki_keywords: zener diode; ki_description: 5.1V, 500mW, 2%, Zener diode, MiniMELF; ki_fp_filters: D*MiniMELF*; Footprint: Diode_SMD:D_MiniMELF; Supplier: https://assets.nexperia.com/documents/data-sheet/BZV55_SER.pdf
footprint D_MiniMELF
pins: 1 K, 2 A

## BZV55B5V6
designator *  value BZV55B5V6
ki_keywords: zener diode; ki_description: 5.6V, 500mW, 2%, Zener diode, MiniMELF; ki_fp_filters: D*MiniMELF*; Footprint: Diode_SMD:D_MiniMELF; Supplier: https://assets.nexperia.com/documents/data-sheet/BZV55_SER.pdf
footprint D_MiniMELF
pins: 1 K, 2 A

## BZV55B6V2
designator *  value BZV55B6V2
ki_keywords: zener diode; ki_description: 6.2V, 500mW, 2%, Zener diode, MiniMELF; ki_fp_filters: D*MiniMELF*; Footprint: Diode_SMD:D_MiniMELF; Supplier: https://assets.nexperia.com/documents/data-sheet/BZV55_SER.pdf
footprint D_MiniMELF
pins: 1 K, 2 A

## BZV55B6V8
designator *  value BZV55B6V8
ki_keywords: zener diode; ki_description: 6.8V, 500mW, 2%, Zener diode, MiniMELF; ki_fp_filters: D*MiniMELF*; Footprint: Diode_SMD:D_MiniMELF; Supplier: https://assets.nexperia.com/documents/data-sheet/BZV55_SER.pdf
footprint D_MiniMELF
pins: 1 K, 2 A

## BZV55B7V5
designator *  value BZV55B7V5
ki_keywords: zener diode; ki_description: 7.5V, 500mW, 2%, Zener diode, MiniMELF; ki_fp_filters: D*MiniMELF*; Footprint: Diode_SMD:D_MiniMELF; Supplier: https://assets.nexperia.com/documents/data-sheet/BZV55_SER.pdf
footprint D_MiniMELF
pins: 1 K, 2 A

## BZV55B8V2
designator *  value BZV55B8V2
ki_keywords: zener diode; ki_description: 8.2V, 500mW, 2%, Zener diode, MiniMELF; ki_fp_filters: D*MiniMELF*; Footprint: Diode_SMD:D_MiniMELF; Supplier: https://assets.nexperia.com/documents/data-sheet/BZV55_SER.pdf
footprint D_MiniMELF
pins: 1 K, 2 A